# Altium footprint library key.PcbLib: 1 footprints
Each footprint in its own frame and in the unit in brackets; x right, y up, seen from the top. Pads: shape width x height; smd on the part's side, far side on the other; paste and mask are expansions set on the pad; w line width, h text height; cw(c..) or ccw(c..) is an arc to the next point about the centre after c.
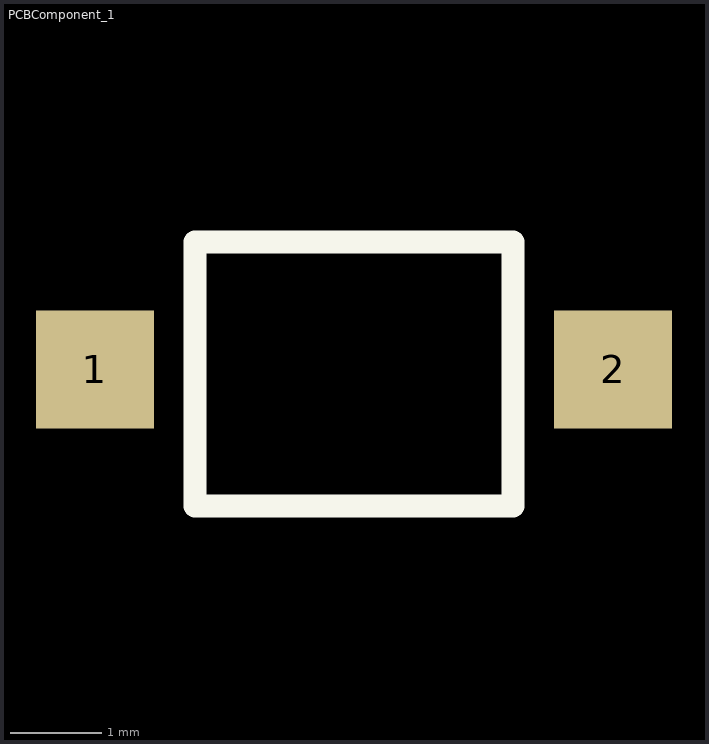
[diagram p0: the footprint, top view; thin cyan lines are the x and y axes]

## PCBComponent_1 [mm]
pads (2):
  rect 1.3x1.3 all layers, no hole: 1(-59.8,30) 2(-54.1,30)
Top Overlay:
  lines w0.254: -58.7,28.5 -58.7,31.4 -55.2,31.4 -55.2,28.5 -58.7,28.5